# EAGLE library part HEADER_POS6_? (library DAWA-MAIN-7.0)
Molex - Micro-Fit 3.0 Series connector, 3.00mm (0.118p) pitch header, 6 positions.
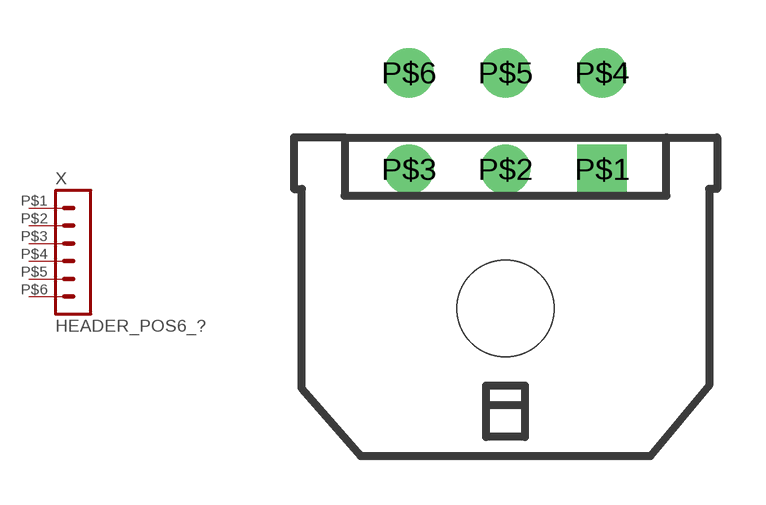
[diagram p5: symbol with the pads of 43045-0600; footprint 43045-0600]

Designator prefix X

## HEADER_POS6_43045-0600 (MPN: 43045-0600; URL_ALIEXPRESS: https://fr.aliexpress.com/item/1005001345828926.html)  [43045-0600]
P$1  1  pas
P$2  2  pas
P$3  3  pas
P$4  4  pas
P$5  5  pas
P$6  6  pas

## Footprint 43045-0600 (pad centres in mm)
Molex Micro-Fit 3.0 - Header Shrouded, Thru hole, Right Angle; P/N: SD-43045-0600, SD-43045-0601, SD-43045-0602 http://www.molex.com/pdm_docs/sd/430450200_sd.pdf
drill 1.02 square: P$1 3,4.32
drill 1.02: P$2 0,4.32; P$3 -3,4.32; P$4 3,7.32; P$5 0,7.32; P$6 -3,7.32
hole 3 at 0,0